# EAGLE library part USB4940-00-A (library SamacSys_Parts)
USB-C (USB TYPE-C) USB 2.0 Receptacle Connector 24 (16+8 Dummy) Position Surface Mount, Right Angle , 48VDC , -40C ~ 85C Source: Datasheet <https://gct.co/download?type=PDFDrawing&name=USB4940.pdf>
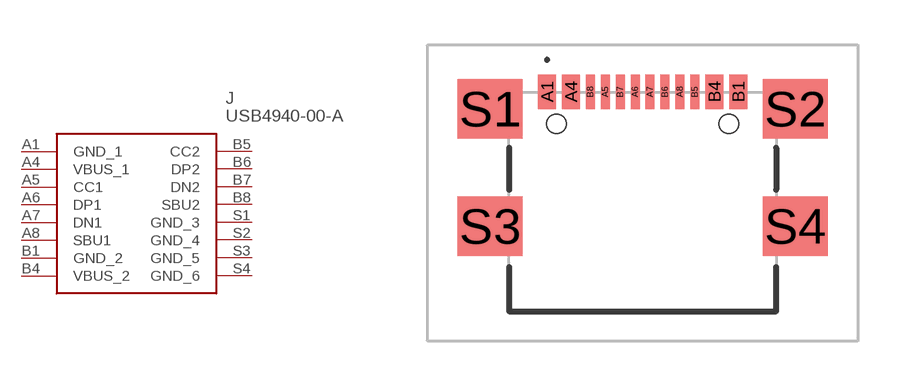
[diagram p9: symbol with the pads of USB494000A; footprint USB494000A]

Designator prefix J

## USB4940-00-A (DESCRIPTION: USB-C (USB TYPE-C) USB 2.0 Receptacle Connector 24 (16+8 Dummy) Position Surface Mount, Right Angle , 48VDC , -40C ~ 85C; HEIGHT: 3.46mm; MANUFACTURER_NAME: GCT (GLOBAL CONNECTOR TECHNOLOGY); MANUFACTURER_PART_NUMBER: USB4940-00-A)  [USB494000A]
A1  GND_1
A4  VBUS_1
A5  CC1
A6  DP1
A7  DN1
A8  SBU1
B1  GND_2
B4  VBUS_2
B5  CC2
B6  DP2
B7  DN2
B8  SBU2
S1  GND_3
S2  GND_4
S3  GND_5
S4  GND_6

## Footprint USB494000A (pad centres in mm)
USB4940-00-A-1
smd 0.6 x 1.15: A1 -3.2,3.678; A4 -2.4,3.678; B1 3.2,3.678; B4 2.4,3.678
smd 0.3 x 1.15: A5 -1.25,3.678; A6 -0.25,3.678; A7 0.25,3.678; A8 1.25,3.678; B5 1.75,3.678; B6 0.75,3.678; B7 -0.75,3.678; B8 -1.75,3.678
smd 2.18 x 2: S1 -5.11,3.103; S2 5.11,3.103; S3 -5.11,-0.827; S4 5.11,-0.827
hole 0.65 at -2.89,2.603
hole 0.65 at 2.89,2.603